# Altium schematic symbol library MIC_MEMS.SchLib: 1 symbol
Pins are listed as number, name and electrical type; pins without a type are passive.

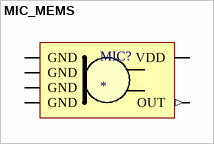
[diagram p0: symbol MIC_MEMS]

## MIC_MEMS
designator MIC?
pins: 1 OUT (out), 2 GND, 3 GND, 4 GND, 5 VDD, 6 GND